# Altium schematic symbol library SCH - DRIVER - GATE - DIODES DGD0215.SchLib: 1 symbol
Pins are listed as number, name and electrical type; pins without a type are passive.

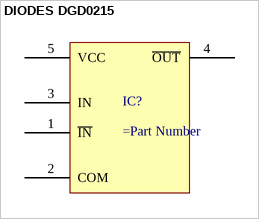
[diagram p0: symbol DIODES DGD0215]

## DIODES DGD0215
designator IC?
pins: 1 ~{IN}, 2 COM, 3 IN, 4 ~{OUT}, 5 VCC